# EAGLE library part 613020243121 (library Wuerth_Elektronik_eiCan_Pin_&_Socked_Headers_v1.3)
WR-PHD Angled Dual Socket Header, 20 Pins
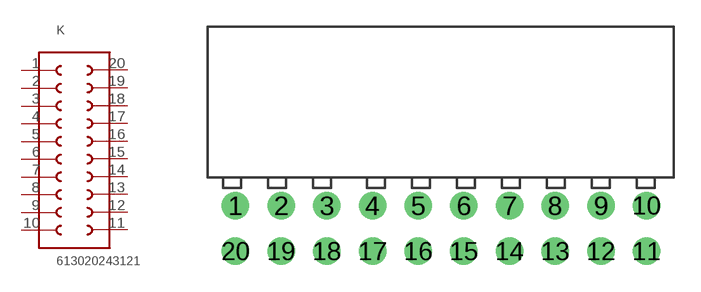
[diagram p173: symbol with the pads of 613020243121; footprint 613020243121]

Designator prefix K

## 613020243121  [613020243121]
1  1  pas
2  2  pas
3  3  pas
4  4  pas
5  5  pas
6  6  pas
7  7  pas
8  8  pas
9  9  pas
10  10  pas
11  11  pas
12  12  pas
13  13  pas
14  14  pas
15  15  pas
16  16  pas
17  17  pas
18  18  pas
19  19  pas
20  20  pas

## Footprint 613020243121 (pad centres in mm)
WR-PHD Angled Dual Socket Header, 20 Pins
drill 1.02 round: 1 -20.32,0; 2 -17.78,0; 3 -15.24,0; 4 -12.7,0; 5 -10.16,0; 6 -7.62,0; 7 -5.08,0; 8 -2.54,0; 9 0,0; 10 2.54,0; 11 2.54,-2.54; 12 0,-2.54; 13 -2.54,-2.54; 14 -5.08,-2.54; 15 -7.62,-2.54; 16 -10.16,-2.54; 17 -12.7,-2.54; 18 -15.24,-2.54; 19 -17.78,-2.54; 20 -20.32,-2.54